# EAGLE library part TLV9002IDDFR (library TLV9002IDDFR)
Operational Amplifiers - Op Amps 2-Channel, 1MHz, RRIO, 1.8V to 5.5V Operational Amplifier for Cost-Optimized Systems 8-SOT-23-THIN -40 to 125 Source: Datasheet <https://www.ti.com/lit/gpn/TLV9002>
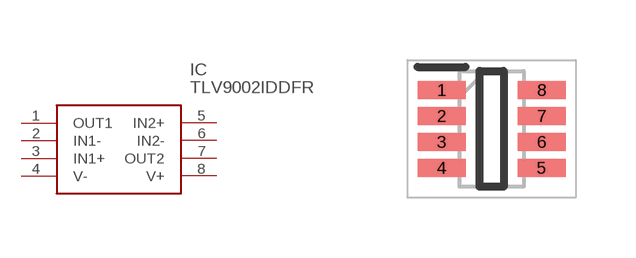
[diagram p0: symbol with the pads of SOT65P280X110-8N; footprint SOT65P280X110-8N]

Designator prefix IC

## TLV9002IDDFR (Arrow_Part_Number: TLV9002IDDFR; Arrow_Price-Stock: https://www.arrow.com/en/products/tlv9002iddfr/texas-instruments?region=europe; Description: Operational Amplifiers - Op Amps 2-Channel, 1MHz, RRIO, 1.8V to 5.5V Operational Amplifier for Cost-Optimized Systems 8-SOT-23-THIN -40 to 125; Height: 1.1mm; Manufacturer_Name: Texas Instruments; Manufacturer_Part_Number: TLV9002IDDFR; Mouser_Part_Number: 595-TLV9002IDDFR; Mouser_Price-Stock: https://www.mouser.co.uk/ProductDetail/Texas-Instruments/TLV9002IDDFR?qs=mAH9sUMRCtuVJ6NmNV%252Bgrw%3D%3D)  [SOT65P280X110-8N]
1  OUT1
2  IN1-
3  IN1+
4  V-
5  IN2+
6  IN2-
7  OUT2
8  V+

## Footprint SOT65P280X110-8N (pad centres in mm)
DDF0008A
smd 1.2 x 0.45: 1 -1.25,0.975; 2 -1.25,0.325; 3 -1.25,-0.325; 4 -1.25,-0.975; 5 1.25,-0.975; 6 1.25,-0.325; 7 1.25,0.325; 8 1.25,0.975